# EAGLE library part SRBM150700 (library switches)
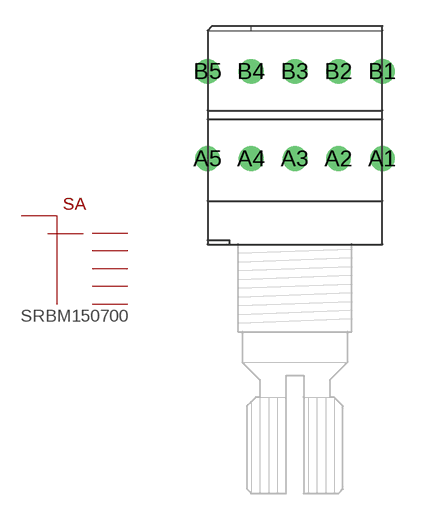
[diagram p3: symbol with the pads of SR10010F; footprint SR10010F]

Designator prefix SA

## SRBM150700 (MOUSER: 688-SRBM150700)  [SR10010F]
A1  CM  pas
A2  2  pas
A3  3  pas
A4  4  pas
A5  5  pas
B1  1  pas
B2  2  pas
B3  3  pas
B4  4  pas
B5  CM  pas

## Footprint SR10010F (pad centres in mm)
ALPS RK097 Single Element, Knurled / Slotted Shaft
drill 0.9: A1 5,5; A2 2.5,5; A3 0,5; A4 -2.5,5; A5 -5,5; B1 5,10; B2 2.5,10; B3 0,10; B4 -2.5,10; B5 -5,10